# Altium footprint library Custom.PcbLib: 446 footprints (part 18 of 28)
Each footprint in its own frame and in the unit in brackets; x right, y up, seen from the top. Pads: shape width x height; smd on the part's side, far side on the other; paste and mask are expansions set on the pad; w line width, h text height; cw(c..) or ccw(c..) is an arc to the next point about the centre after c.
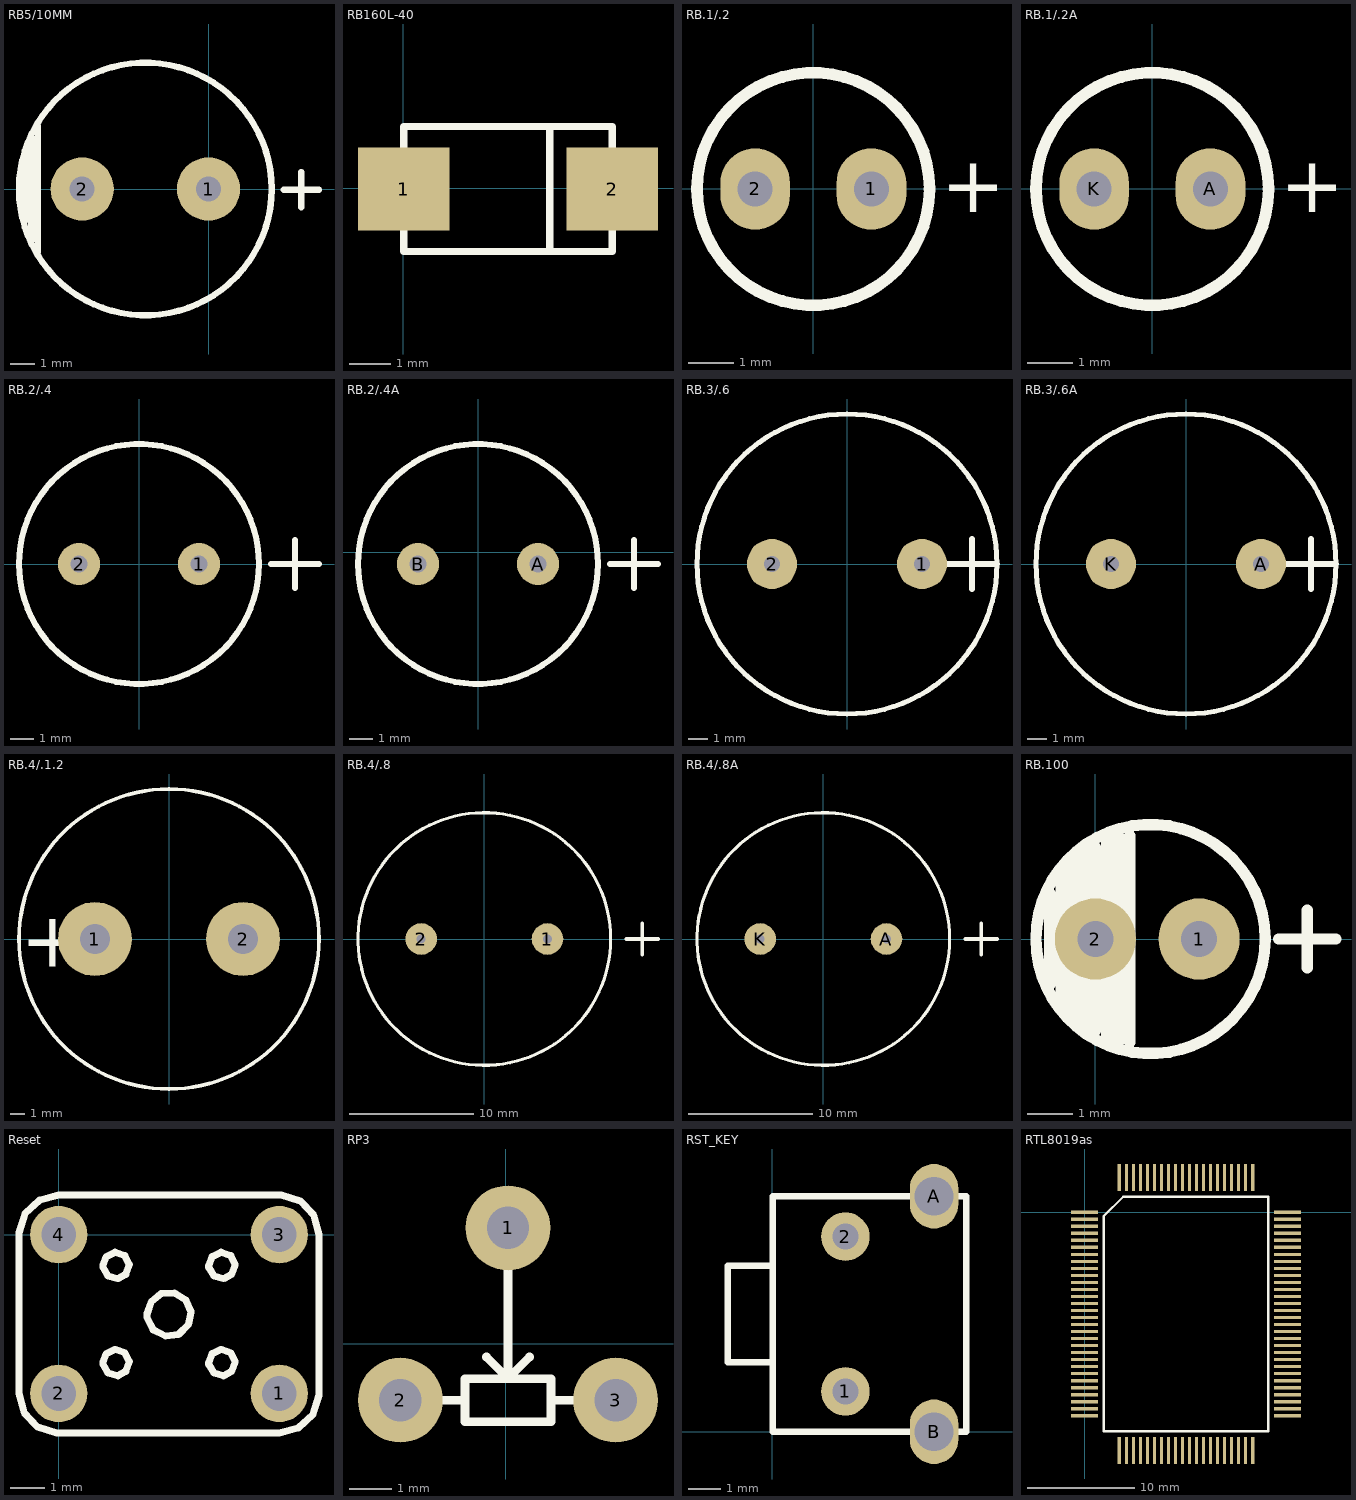
[diagram p17: the footprints below, top view; thin cyan lines are the x and y axes]

## RB5/10MM [mm]
pads (2):
  round 2.54 hole 1: 1(0,0) 2(-5.08,0)
Top Overlay:
  circle w0.254: c-2.54,0 r5.08
  lines w0.254: -7.366,-1.27 -7.366,1.524 ; -6.858,-2.54 -6.858,2.54 ; 3.023,-0.025 4.442,-0.025 ; 3.734,-0.737 3.734,0.686
  lines w0.305: -7.112,-2.032 -7.112,2.032

## RB160L-40 [mm]
pads (2):
  rect 2.2x2 smd: 1(0.019,-0.022) 2(5.019,-0.022)
Top Overlay:
  lines w0.178: 0.019,-1.022 0.019,-1.522 5.019,-1.522 5.019,-1.022 ; 0.019,0.978 0.019,1.478 5.019,1.478 5.019,0.978 ; 3.519,-1.522 3.519,1.478

## RB.1/.2 [mil]
pads (2):
  oval 60x70 hole 30: 1(50,0) 2(-50,0)
Top Overlay:
  circle w10: c0,0 r100
  text "+" at 110,-20 h48

## RB.1/.2A [mil]
pads (2):
  oval 60x70 hole 30: A(50,0) K(-50,0)
Top Overlay:
  circle w10: c0,0 r100
  text "+" at 110,-20 h48

## RB.2/.4 [mil]
pads (2):
  round 70 hole 28: 1(100,0) 2(-100,0)
Top Overlay:
  circle w10: c0,0 r200
  lines w10: 220,0 300,0 ; 260,-40 260,40

## RB.2/.4A [mil]
pads (2):
  round 70 hole 28: A(100,-20) B(-100,-20)
Top Overlay:
  circle w10: c0,-20 r200
  lines w10: 220,-20 300,-20 ; 260,-60 260,20

## RB.3/.6 [mil]
pads (2):
  round 100 hole 32: 1(150,0) 2(-150,0)
Top Overlay:
  circle w10: c0,0 r300
  lines w12: 200,0 300,0 ; 250,-50 250,50

## RB.3/.6A [mil]
pads (2):
  round 100 hole 32: A(150,0) K(-150,0)
Top Overlay:
  circle w10: c0,0 r300
  lines w12: 200,0 300,0 ; 250,-50 250,50

## RB.4/.1.2 [mil]
pads (2):
  round 200 hole 80: 1(-200,0) 2(200,0)
Top Overlay:
  circle w10: c0,0 r405.25
  text "+" at -400,-75 h150

## RB.4/.8 [mil]
pads (2):
  round 100 hole 28: 1(200,0) 2(-200,0)
Top Overlay:
  circle w10: c0,0 r400
  lines w12: 450,0 550,0 ; 500,-50 500,50

## RB.4/.8A [mil]
pads (2):
  round 100 hole 28: A(200,0) K(-200,0)
Top Overlay:
  circle w10: c0,0 r400
  lines w12: 450,0 550,0 ; 500,-50 500,50

## RB.100 [mm]
pads (2):
  round 1.8 hole 0.8: 1(2.3,0) 2(0,0)
Top Overlay:
  circle w0.254: c1.224,0 r2.54
  lines w0.254: -1.016,-1.016 -1.016,1.016 ; -0.762,-1.524 -0.762,1.524 ; -0.508,-1.778 -0.508,1.778 ; -0.254,-2.032 -0.254,2.032 ; 0,-2.032 0,2.032 ; 0.254,-2.286 0.254,2.286 ; 0.508,-2.286 0.508,2.286 ; 0.762,-2.286 0.762,2.286 ; 4.064,0 5.334,0 ; 4.699,-0.635 4.699,0.635

## Reset [mil]
pads (4):
  round 65 hole 39.37: 1(250,-180) 2(0,-180) 3(250,0) 4(0,0)
Top Overlay:
  lines w8: -45,-180 -39,-202 -24,-218 -2,-225 0,-225 250,-225 272,-219 288,-204 295,-182 295,-180 295,0 289,22 274,38 252,45 250,45 0,45 -22,39 -38,24 -45,2 -45,0 -45,-180 ; 50,-147 56,-157 67,-160 76,-155 80,-144 75,-134 64,-130 54,-135 50,-145 50,-147 ; 50,-37 56,-47 67,-50 76,-45 80,-34 75,-24 64,-20 54,-25 50,-35 50,-37 ; 100,-94 107,-108 121,-115 136,-113 147,-102 150,-88 144,-74 131,-66 116,-67 105,-76 100,-90 100,-94 ; 170,-147 176,-157 187,-160 196,-155 200,-144 195,-134 184,-130 174,-135 170,-145 170,-147 ; 170,-37 176,-47 187,-50 196,-45 200,-34 195,-24 184,-20 174,-25 170,-35 170,-37

## RP3 [mm]
pads (3):
  round 2 hole 1: 1(0.052,2.739) 2(-2.488,-1.325) 3(2.592,-1.325)
Top Overlay:
  lines w0.203: -2.488,-1.325 -0.964,-1.325 ; -0.456,-0.309 0.052,-0.817 ; 0.052,2.739 0.052,-0.817 ; 0.56,-0.309 0.052,-0.817 ; 1.068,-1.325 2.592,-1.325 ; -0.964,-1.325 -0.964,-0.817 1.068,-0.817 1.068,-1.833 -0.964,-1.833 -0.964,-1.325

## RST_KEY [mm]
pads (4):
  round 1.5 hole 0.8: 1(2.272,1.254) 2(2.272,6.054)
  oval 1.5x2 hole 1.2: A(5.022,7.304) B(5.022,0.004)
Top Overlay:
  lines w0.2: 0.022,2.154 -1.378,2.154 -1.378,5.154 0.022,5.154 ; 0.022,0.004 6.022,0.004 6.022,7.304 0.022,7.304 0.022,0.004

## RTL8019as [mm]
pads (100):
  rect 2.5x0.3 smd: 1(0,0) 2(0,-0.65) 3(0,-1.3) 4(0,-1.95) 5(0,-2.6) 6(0,-3.25) 7(0,-3.9) 8(0,-4.55) 9(0,-5.2) 10(0,-5.85) 11(0,-6.5) 12(0,-7.15) 13(0,-7.8) 14(0,-8.45) 15(0,-9.1) 16(0,-9.75) 17(0,-10.4) 18(0,-11.05) 19(0,-11.7) 20(0,-12.35) 21(0,-13) 22(0,-13.65) 23(0,-14.3) 24(0,-14.95) 25(0,-15.6) 26(0,-16.25) 27(0,-16.9) 28(0,-17.55) 29(0,-18.2) 30(0,-18.85) 51(18.8,-18.85) 52(18.8,-18.2) 53(18.8,-17.55) 54(18.8,-16.9) 55(18.8,-16.25) 56(18.8,-15.6) 57(18.8,-14.95) 58(18.8,-14.3) 59(18.8,-13.65) 60(18.8,-13) 61(18.8,-12.35) 62(18.8,-11.7) 63(18.8,-11.05) 64(18.8,-10.4) 65(18.8,-9.75) 66(18.8,-9.1) 67(18.8,-8.45) 68(18.8,-7.8) 69(18.8,-7.15) 70(18.8,-6.5) 71(18.8,-5.85) 72(18.8,-5.2) 73(18.8,-4.55) 74(18.8,-3.9) 75(18.8,-3.25) 76(18.8,-2.6) 77(18.8,-1.95) 78(18.8,-1.3) 79(18.8,-0.65) 80(18.8,0)
  rect 0.3x2.5 smd: 31(3.225,-22.075) 32(3.875,-22.075) 33(4.525,-22.075) 34(5.175,-22.075) 35(5.825,-22.075) 36(6.475,-22.075) 37(7.125,-22.075) 38(7.775,-22.075) 39(8.425,-22.075) 40(9.075,-22.075) 41(9.725,-22.075) 42(10.375,-22.075) 43(11.025,-22.075) 44(11.675,-22.075) 45(12.325,-22.075) 46(12.975,-22.075) 47(13.625,-22.075) 48(14.275,-22.075) 49(14.925,-22.075) 50(15.575,-22.075) 81(15.575,3.225) 82(14.925,3.225) 83(14.275,3.225) 84(13.625,3.225) 85(12.975,3.225) 86(12.325,3.225) 87(11.675,3.225) 88(11.025,3.225) 89(10.375,3.225) 90(9.725,3.225) 91(9.075,3.225) 92(8.425,3.225) 93(7.775,3.225) 94(7.125,3.225) 95(6.475,3.225) 96(5.825,3.225) 97(5.175,3.225) 98(4.525,3.225) 99(3.875,3.225) 100(3.225,3.225)
Top Overlay:
  lines w0.2: 1.785,-20.29 17.015,-20.29 17.015,1.44 3.57,1.44 1.785,-0.345 1.785,-20.29